# Altium schematic symbol library Encoder.SchLib: 2 symbols
Pins are listed as number, name and electrical type; pins without a type are passive.

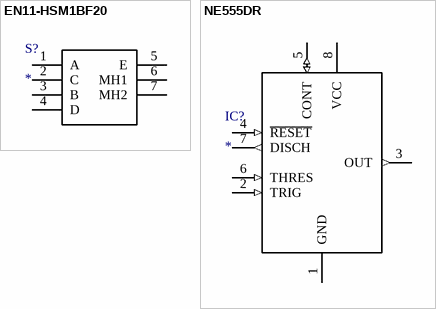
[diagram p0: symbols EN11-HSM1BF20 to NE555DR]

## EN11-HSM1BF20
designator S?
Switch; Manufacturer_Name: TT Electronics/BI Magnetics; Manufacturer_Part_Number: EN11-HSM1BF20; Description: ENCODER 11MM ROTARY SW TOP ADJ; Datasheet Link: http://www.ttelectronics.com/sites/default/files/download-files/Datasheet_RotaryEncoder_EN11Series.pdf; Height: 26mm
footprint EN11HSM1BF20
pins: 1 A, 2 C, 3 B, 4 D, 5 E, 6 MH1, 7 MH2

## NE555DR
designator IC?
Integrated Circuit; Manufacturer_Name: Texas Instruments; Manufacturer_Part_Number: NE555DR; Datasheet Link: http://www.ti.com/lit/ds/symlink/ne555.pdf; Height: 1.75mm; RS Part Number: 1218414; RS Price/Stock: http://uk.rs-online.com/web/p/products/1218414; Mouser Part Number: 595-NE555DR; Mouser Price/Stock: https://www.mouser.com/Search/Refine.aspx?Keyword=595-NE555DR
footprint SOIC127P600X175-8N
pins: 1 GND (power), 2 TRIG (in), 3 OUT (out), 4 ~{RESET} (in), 5 CONT (io), 6 THRES (in), 7 DISCH (out), 8 VCC (power)